# Altium schematic symbol library Miscellaneous.SchLib: 1 symbol
Pins are listed as number, name and electrical type; pins without a type are passive.

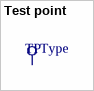
[diagram p0: symbol Test point]

## Test point
designator TP
Test point; Type: Type
footprint TEST POINT
pins: 1 33